# Altium footprint library esclib.PcbLib: 1 footprints
Each footprint in its own frame and in the unit in brackets; x right, y up, seen from the top. Pads: shape width x height; smd on the part's side, far side on the other; paste and mask are expansions set on the pad; w line width, h text height; cw(c..) or ccw(c..) is an arc to the next point about the centre after c.
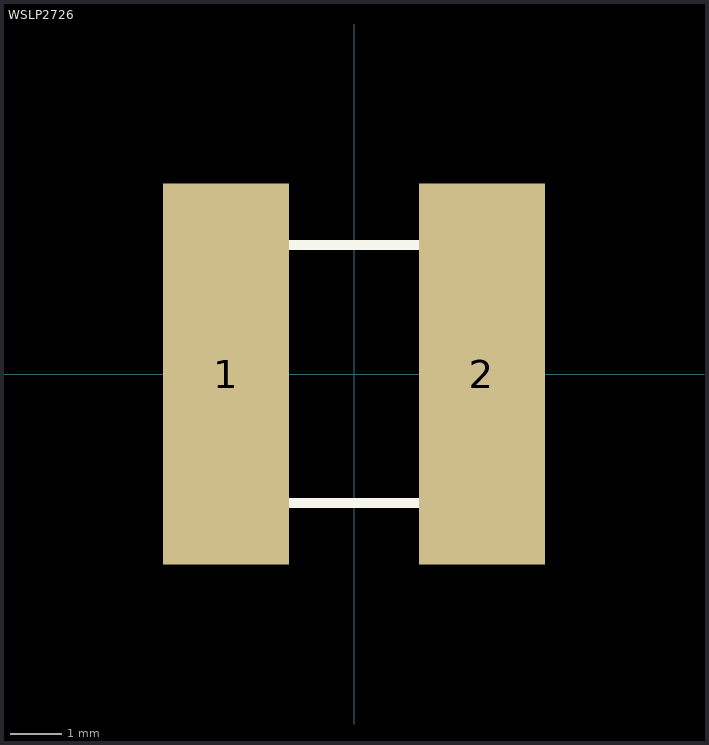
[diagram p0: the footprint, top view; thin cyan lines are the x and y axes]

## WSLP2726 [mm]
pads (2):
  rect 2.44x7.38 smd: 1(-2.48,0) 2(2.48,0)
Top Overlay:
  lines w0.2: -2.51,-2.5 -2.51,0 -2.51,2.5 2.51,2.5 2.51,-2.5 -2.51,-2.5